# Altium schematic symbol library Vishay TSOP364XX.Schlib: 1 symbol
Pins are listed as number, name and electrical type; pins without a type are passive.

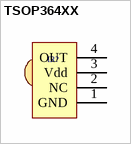
[diagram p0: symbol TSOP364XX]

## TSOP364XX
designator IR?, comment TSOP36436TT  (value not drawn)
IR Receiver Modules for Remote Control Systems; Manufacturer: Vishay; Value 1: 36kHz; Part Number: TSOP36436TT; Supplier 1: Mouser; Supplier Part Number 1: 78-TSOP36436TT; Technology: IR reciviers; Value 2: *; Value: TSOP36436TT; ComponentLink1Description: Datasheet Link; ComponentLink1URL: https://ru.mouser.com/datasheet/2/427/tsop362-1767347.pdf; TYPE: Opto
footprint TSOP36436 (IR Receiver Modules for Remote Control Systems)
pins: 1 GND, 2 NC, 3 Vdd, 4 OUT
1 alternate drawing of the same symbol